# Altium schematic symbol library Passive,Diodes.SchLib: 12 symbols
Pins are listed as number, name and electrical type; pins without a type are passive.

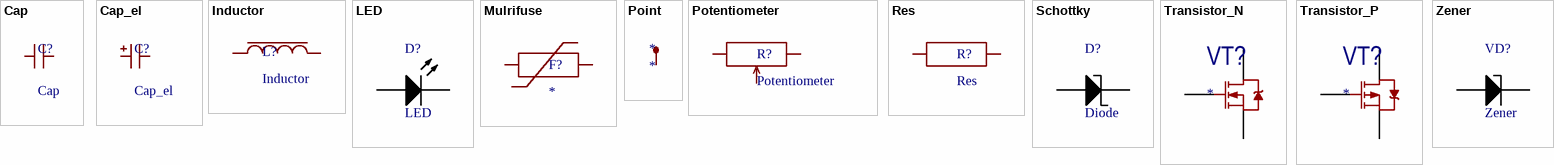
[diagram p0: symbols Cap to Zener]

## Cap
designator C?
Capacitor; Manufacturer: *; Value: *; ComponentLink1Description: Datasheet; ComponentLink1URL: *
simulation model CAP (Capacitor)
signal-integrity model Cap
footprint SMD-0805C
footprint SMD-1206C
pins: 1, 2

## Cap_el
designator C?
Electrolytic capacitor; Manufacturer: *; Value: *; ComponentLink1Description: Datasheet; ComponentLink1URL: *
footprint CAP POL 2917/7343 (Molded Capacitor, 2-Leads, Body 7.30x4.30mm, IPC Medium Density)
footprint CAP_5x11 (Electorlytic capacitor 5x11; 2 Leads)
footprint CAP_10x10.5 (Aluminum electrolytic capacitor with size 10x10.5 mm)
footprint CAP_TAN_CASE_A (Tantalum capacitor with case A)
pins: 1, 2

## Inductor
designator L?
Value: *; Manufacturer: *; ComponentLink1Description: Datasheet; ComponentLink1URL: *
simulation model INDUCTOR (Inductor)
signal-integrity model Inductor
footprint 1210_M (Body 3.2x2.5mm, IPC Low Density)
footprint SMD-0805-RES
footprint B82477G4 (Size 12.8 x 12.8 x 8.0)
pins: 1, 2

## LED
designator D?
Typical INFRARED GaAs LED; Manufacturer: *; ComponentLink1Description: Datasheet; ComponentLink1URL: *
footprint LED_1.9x3.9mm (Photosensitive Diode; 2 Leads)
footprint LED_8mm (Photosensitive Diode; 2 Leads)
footprint SMD-0805LED
pins: 1 A, 2 K

## Mulrifuse
designator F?
Multifuse; Manufacturer: *; Value: *; ComponentLink1Description: Datasheet; ComponentLink1URL: *
footprint SMD-1812-FUSE (1812 SMD Fuse)
pins: 1, 2

## Point
designator *
footprint point (Point; 1 Position)
pins: 1

## Potentiometer
designator R?
Manufacturer: *; Value: *; ComponentLink1Description: Datasheet; ComponentLink1URL: *
footprint CA9V (Footprint CA9V)
pins: 1, 2, 3

## Res
designator R?
Resistor; Manufacturer: *; Value: *; ComponentLink1Description: Datasheet; ComponentLink1URL: *
simulation model RESISTOR (Resistor)
signal-integrity model Res
footprint SMD-0805-RES
pins: 1, 2

## Schottky
designator D?, comment Diode
Diode Schottky; Manufacturer: *; ComponentLink1Description: Datasheet; ComponentLink1URL: *
footprint 1N5819
pins: 1 A, 2 K

## Transistor_N
designator VT?
N-channel FET; Manufacturer: *; Datasheet: *
footprint SOT23_3 (SOT23, 3-Leads, Body 2.9x1.3mm, Pitch 0.95mm, Lead Span 2.3mm - Reverse Pinning, IPC Low Density)
pins: 1 G, 2 S, 3 D

## Transistor_P
designator VT?
P-channel FET; Manufacturer: *; Datasheet: *
footprint SOT23_3 (SOT23, 3-Leads, Body 2.9x1.3mm, Pitch 0.95mm, Lead Span 2.3mm - Reverse Pinning, IPC Low Density)
pins: 1 G, 2 S, 3 D

## Zener
designator VD?
Zener diode; Manufacturer: *; ComponentLink1Description: Datasheet; ComponentLink1URL: *
footprint SOT23_M (SOT23, 3-Leads, Body 2.9x1.3mm, Pitch 0.95mm, Lead Span 2.3mm - Reverse Pinning, IPC Low Density)
pins: 1 K, 3 A